# EAGLE library part AP3512EMPTR-G1 (library AP3512EMPTR-G1)
18V 2A Sync DC-DC Buck Converter PSOP8 DiodesZetex AP3512EMPTR-G1, Buck Converter, 2A, Adjustable, 3.3 (Max.) V, 8-Pin PSOP Source: Datasheet <https://www.diodes.com/assets/Datasheets/AP3512E.pdf>
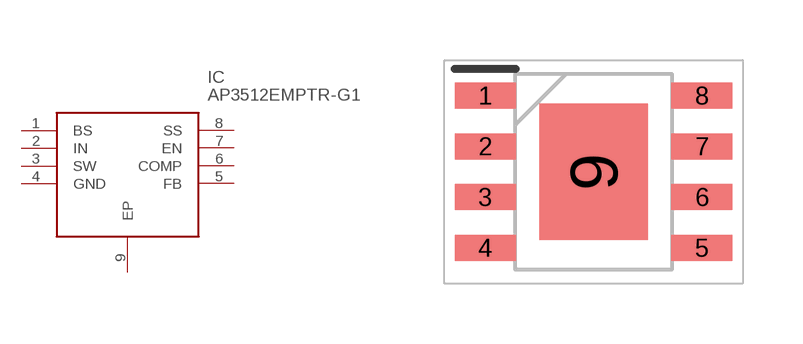
[diagram p0: symbol with the pads of SOIC127P600X155-9N; footprint SOIC127P600X155-9N]

Designator prefix IC

## AP3512EMPTR-G1 (Description: 18V 2A Sync DC-DC Buck Converter PSOP8 DiodesZetex AP3512EMPTR-G1, Buck Converter, 2A, Adjustable, 3.3 (Max.) V, 8-Pin PSOP; Height: 1.55mm; Manufacturer_Name: Diodes Inc.; Manufacturer_Part_Number: AP3512EMPTR-G1; Mouser_Part_Number: 621-AP3512EMPTR-G1; Mouser_Price-Stock: https://www.mouser.co.uk/ProductDetail/Diodes-Incorporated/AP3512EMPTR-G1?qs=x6A8l6qLYDAUQ0hVzXyp4Q%3D%3D)  [SOIC127P600X155-9N]
1  BS
2  IN
3  SW
4  GND
5  FB
6  COMP
7  EN
8  SS
9  EP

## Footprint SOIC127P600X155-9N (pad centres in mm)
SO-8(EP)_3
smd 1.525 x 0.65: 1 -2.712,1.905; 2 -2.712,0.635; 3 -2.712,-0.635; 4 -2.712,-1.905; 5 2.712,-1.905; 6 2.712,-0.635; 7 2.712,0.635; 8 2.712,1.905
smd 2.71 x 3.402: 9 0,0